# EAGLE library part LMZ14201 (library RoboJackets-PowerICs)
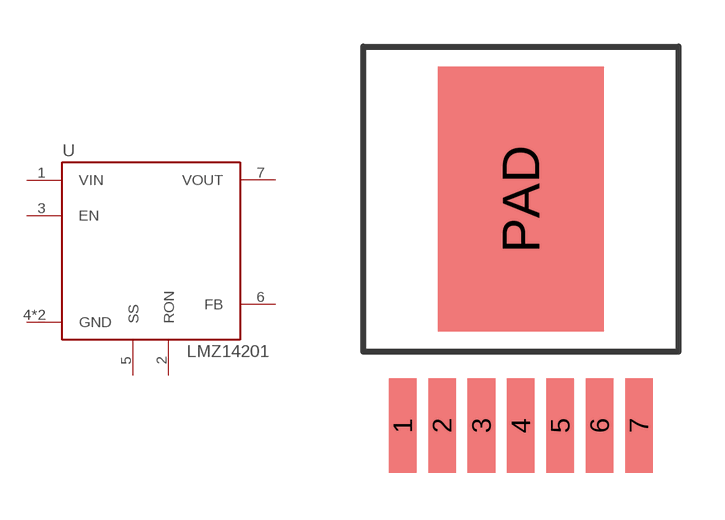
[diagram p10: symbol with the pads of TO-PMOD-7; footprint TO-PMOD-7]

Designator prefix U

## LMZ14201 (DIGIKEY: LMZ14201HTZX/NOPBCT-ND; MPN: LMZ14201HTZX/NOPB)  [TO-PMOD-7]
1  VIN
2  RON
3  EN
4  GND
5  SS
6  FB
7  VOUT
PAD  GND

## Footprint TO-PMOD-7 (pad centres in mm)
smd 0.89 x 3.06: 1 -3.81,-7.305; 2 -2.54,-7.305; 3 -1.27,-7.305; 4 0,-7.305; 5 1.27,-7.305; 6 2.54,-7.305; 7 3.81,-7.305
smd 5.35 x 8.54: PAD 0,0